# Altium footprint library TC_C.PcbLib: 1 footprints
Each footprint in its own frame and in the unit in brackets; x right, y up, seen from the top. Pads: shape width x height; smd on the part's side, far side on the other; paste and mask are expansions set on the pad; w line width, h text height; cw(c..) or ccw(c..) is an arc to the next point about the centre after c.
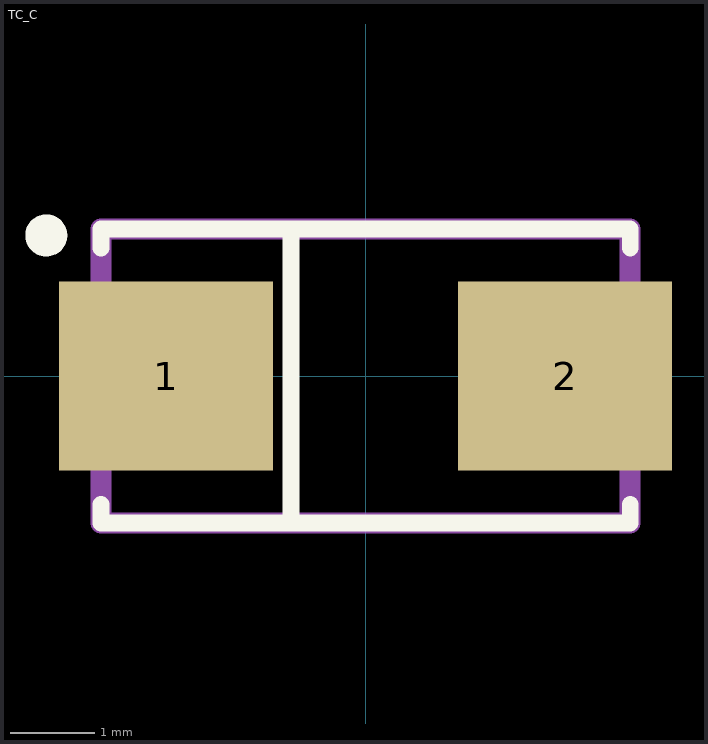
[diagram p0: the footprint, top view; thin cyan lines are the x and y axes]

## TC_C [mm] "Tantalum capacitor, type C, 1 pin - plus"
height 2.8
pads (2):
  rect 2.55x2.25 smd: 1(-2.375,0) 2(2.375,0)
Top Overlay:
  circle w0.25: c-3.8,1.675 r0.125
  lines w0.2: -3.15,-1.525 -3.15,-1.75 3.15,-1.75 3.15,-1.525 ; -3.15,1.525 -3.15,1.75 3.15,1.75 3.15,1.525 ; -0.889,-1.75 -0.889,1.75
Mechanical 4:
  lines w0.25: -3.15,-1.75 -3.15,1.75 3.15,1.75 3.15,-1.75 -3.15,-1.75
  text ".Designator" at 0.9,6.303 h2.15
3D body "CAPM-TANTC-YL.stp": height 2.8, standoff 0, extent -3.1,-1.7 3.1,1.7